# Altium footprint library lib_bosch.PcbLib: 1 footprints
Each footprint in its own frame and in the unit in brackets; x right, y up, seen from the top. Pads: shape width x height; smd on the part's side, far side on the other; paste and mask are expansions set on the pad; w line width, h text height; cw(c..) or ccw(c..) is an arc to the next point about the centre after c.
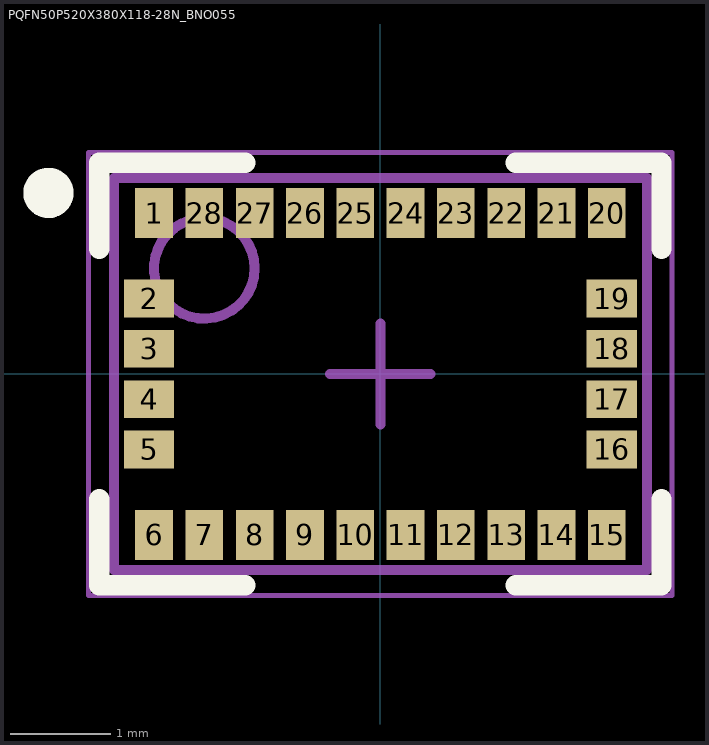
[diagram p0: the footprint, top view; thin cyan lines are the x and y axes]

## PQFN50P520X380X118-28N_BNO055 [mm] "PQFN, 28-Leads, Body 5.20x3.80mm, Pitch 0.50mm, IPC Medium Density"
height 1.18
pads (28):
  rect 0.375x0.5 smd: 1(-2.25,1.6) 6(-2.25,-1.6) 7(-1.75,-1.6) 8(-1.25,-1.6) 9(-0.75,-1.6) 10(-0.25,-1.6) 11(0.25,-1.6) 12(0.75,-1.6) 13(1.25,-1.6) 14(1.75,-1.6) 15(2.25,-1.6) 20(2.25,1.6) 21(1.75,1.6) 22(1.25,1.6) 23(0.75,1.6) 24(0.25,1.6) 25(-0.25,1.6) 26(-0.75,1.6) 27(-1.25,1.6) 28(-1.75,1.6)
  rect 0.5x0.375 smd: 2(-2.3,0.75) 3(-2.3,0.25) 4(-2.3,-0.25) 5(-2.3,-0.75) 16(2.3,-0.75) 17(2.3,-0.25) 18(2.3,0.25) 19(2.3,0.75)
Top Overlay:
  circle w0.25: c-3.3,1.8 r0.125
  lines w0.2: -2.794,-1.244 -2.794,-2.1 -1.342,-2.1 ; -2.794,1.244 -2.794,2.1 -1.342,2.1 ; 1.342,-2.1 2.794,-2.1 2.794,-1.244 ; 1.342,2.1 2.794,2.1 2.794,1.244
Mechanical 13:
  circle w0.1: c-1.75,1.05 r0.5
  lines w0.1: -2.65,-1.95 2.65,-1.95 2.65,1.95 -2.65,1.95 -2.65,-1.95
Mechanical 15:
  lines w0.05: -2.9,-2.2 2.9,-2.2 2.9,2.2 -2.9,2.2 -2.9,-2.2
  lines w0.1: -0.5,0 0.5,0 ; 0,-0.5 0,0.5
3D body "PQFN50P520X380X118-28N_BNO055.step": height 1.18, standoff 0, extent -2.65,-1.95 2.65,1.95